# Altium schematic symbol library MAX7219CWGT.SchLib: 1 symbol
Pins are listed as number, name and electrical type; pins without a type are passive.

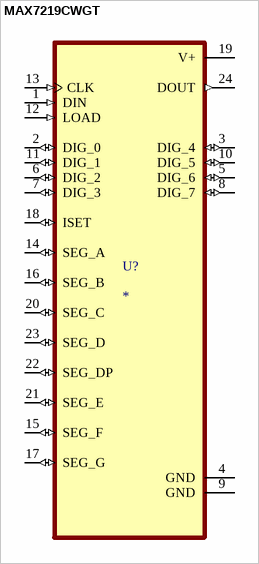
[diagram p0: symbol MAX7219CWGT]

## MAX7219CWGT
designator U?
IC DRVR 7 SEGMNT 8 DIGIT 24SOIC; MF: Analog Devices; MP: MAX7219CWG+; SnapEDA_Link: https://www.snapeda.com/parts/MAX7219CWG+/Analog+Devices/view-part/?ref=snap; Package: SOIC-24 Maxim; Value: *; Check_prices: https://www.snapeda.com/parts/MAX7219CWG+/Analog+Devices/view-part/?ref=eda
footprint SOIC127P1032X265-24N
pins: 1 DIN (in), 2 DIG_0 (io), 3 DIG_4 (io), 4 GND (power), 5 DIG_6 (io), 6 DIG_2 (io), 7 DIG_3 (io), 8 DIG_7 (io), 9 GND (power), 10 DIG_5 (io), 11 DIG_1 (io), 12 LOAD (in), 13 CLK (in), 14 SEG_A (io), 15 SEG_F (io), 16 SEG_B (io), 17 SEG_G (io), 18 ISET (io), 19 V+ (power), 20 SEG_C (io), 21 SEG_E (io), 22 SEG_DP (io), 23 SEG_D (io), 24 DOUT (out)